# Altium schematic symbol library R 6 DSX 04.SCHLIB: 28 symbols
Pins are listed as number, name and electrical type; pins without a type are passive.

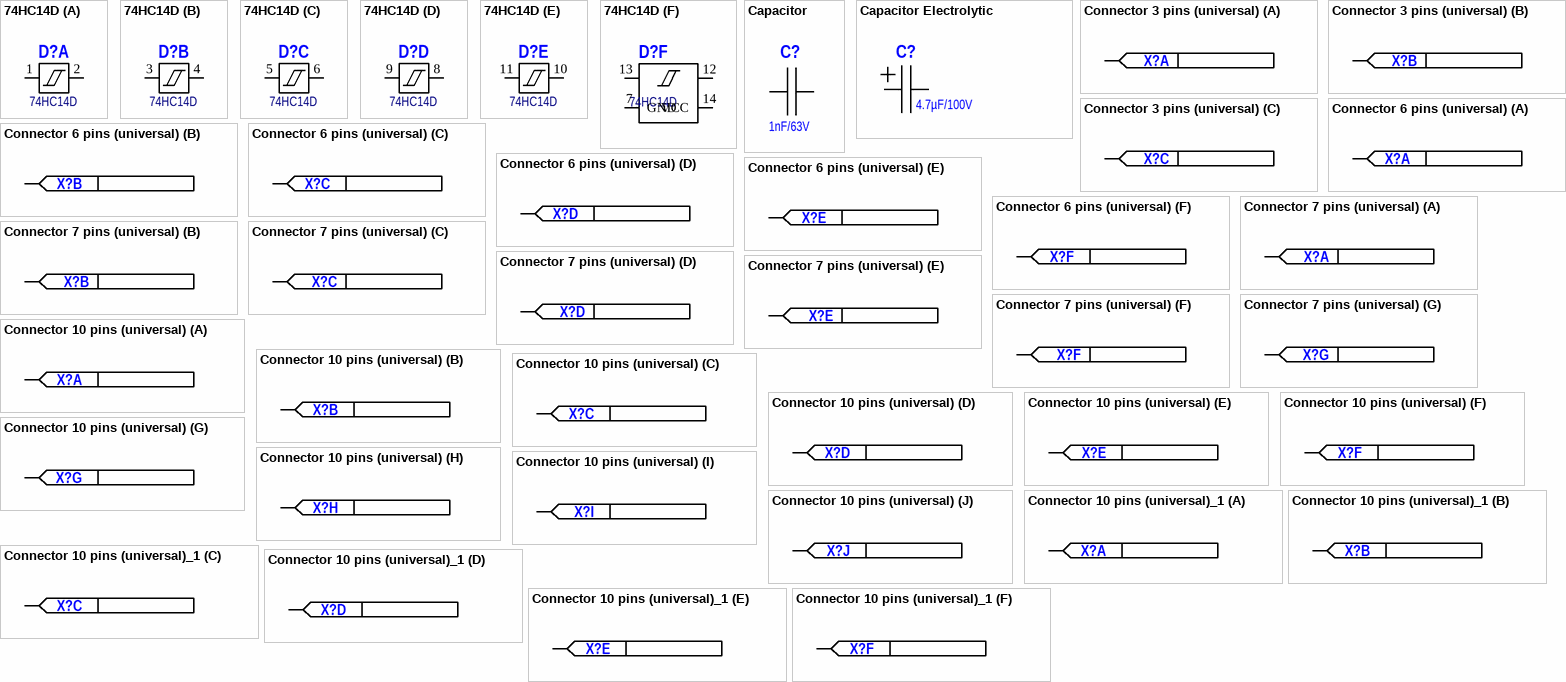
[diagram p0: symbols 74HC14D to Connector 10 pins (universal)_1]

## 74HC14D
designator D?
Hex inverting Schmitt trigger; Vendor: Philips Semiconductors; Type: Шесть инверторов с триггером Шмитта (5V логика); ComponentLink1URL: *; ComponentLink1URL: \STM32F429.pdf; Package: SOIC14; Partnumber: 74HC14D
footprint SO14 (SOIC; 14 Leads; Body Width 3.8 mm; Pitch 1.27 mm)
part A pins: 1, 2
part B pins: 3, 4
part C pins: 5, 6
part D pins: 8, 9
part E pins: 10, 11
part F pins: 7 GND, 12, 13, 14 VCC

## Capacitor
designator C?, comment 1nF/63V
Partnumber: CC0805JRNPO0BN102; Vendor: Yageo; Type: Конденсатор керамический 1нФ 5% 100В COG SMD 0805
footprint SMD Capacitor 0805 (Without marking on surface)
pins: 1, 2

## Capacitor Electrolytic
designator C?, comment 4.7µF/100V
Capacitor Electrolytic; Partnumber: К50-35-100В-4,7мкФ 5х11мм; Type: Конденсатор электролитический 4,7 мкФ ±20% 100В
footprint Capacitor  electrolytic 5x11mm
pins: 1, 2

## Connector 3 pins (universal)
designator X?, comment 62395-1 (3ps)  (value not drawn)
Vendor: TE Connectivity; Type: FASTON-110, 3-поз., ширина лезвия: 2,8mm; Partnumber: 62395-1 (3 ps)
footprint Faston Connector 3 x 2.8 mm (Connector: 3 x Faston Pin 2.8 mm)
part A pins: 1
part B pins: 2
part C pins: 3

## Connector 6 pins (universal)
designator X?, comment BH-6 (DS1013-06S) (IDC-6MS)  (value not drawn)
Vendor: Connfly; Type: Соединитель 6 контактов.; Partnumber: BH-6 (DS1013-06S) (IDC-6MS)
footprint BH-6 (BH-6 (DS1013-06S) (IDC-6MS))
part A pins: 1
part B pins: 2
part C pins: 3
part D pins: 4
part E pins: 5
part F pins: 6

## Connector 7 pins (universal)
designator X?, comment DG381-3.5-07P  (value not drawn)
Vendor: Degson; Type: Соединитель клеммный винтовой 7 полюсов; Partnumber: DG381-3.5-07P
footprint DG381-3.5-07P Terminals (DG381-3.5-07P Terminal 7 poles by Degson 3.5 mm pitch)
part A pins: 1
part B pins: 2
part C pins: 3
part D pins: 4
part E pins: 5
part F pins: 6
part G pins: 7

## Connector 10 pins (universal)
designator X?  (value not drawn)
Partnumber: 15EDGVM-3.81-10P-14; Vendor: Degson; Type: Соединитель 10 контактов. Шаг 3,81 мм.
footprint Connector 15EDGVM-3.81-10P (15EDGVM-3.81-10P Connector 10 poles by Degson 3.81 mm pitch)
part A pins: 1
part B pins: 2
part C pins: 3
part D pins: 4
part E pins: 5
part F pins: 6
part G pins: 7
part H pins: 8
part I pins: 9
part J pins: 10

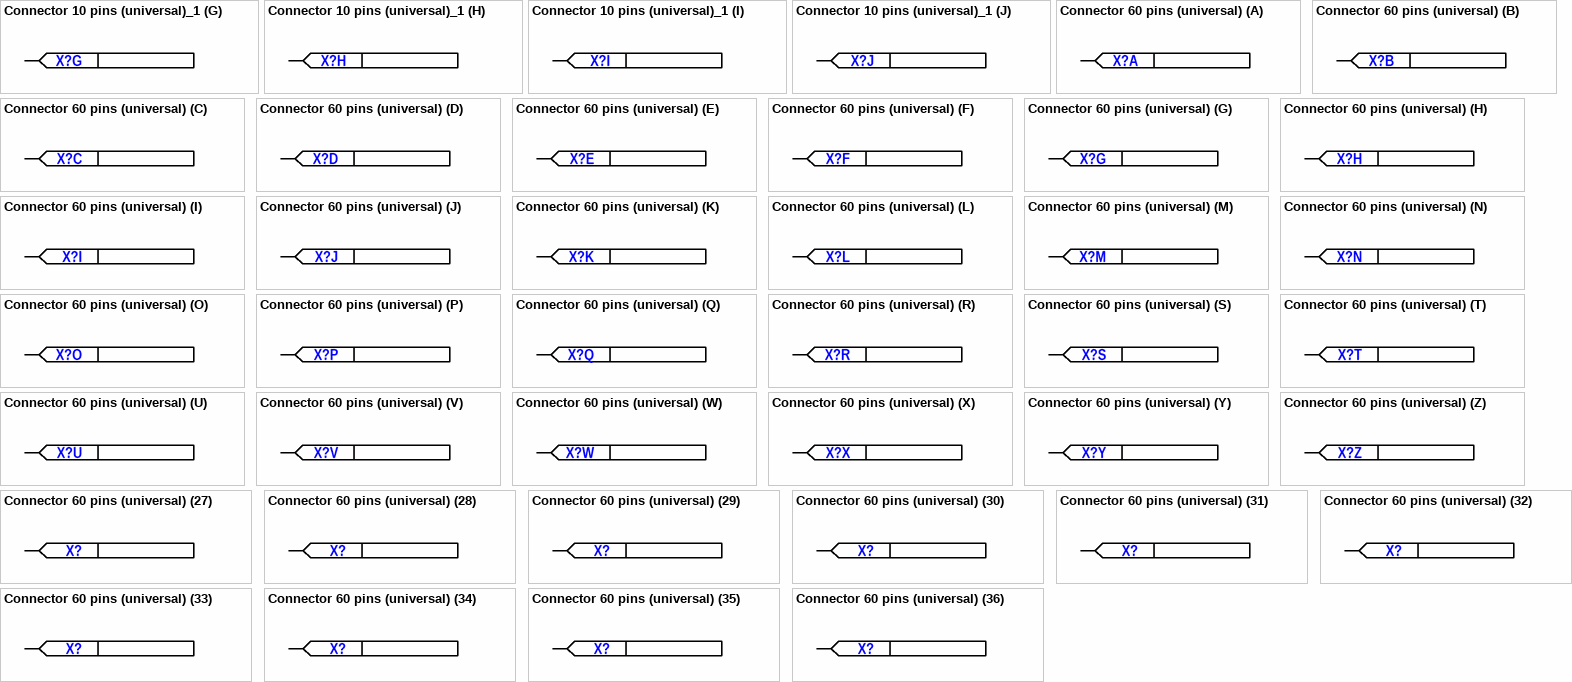
[diagram p1: symbols Connector 10 pins (universal)_1 to Connector 60 pins (universal)]

## Connector 10 pins (universal)_1
designator X?, comment BH-10  (value not drawn)
Partnumber: BH-10 (DS1013-10S) (IDC-10MS); Vendor: Connfly; Type: Соединитель для подключения внешнего шлейфа с шагом 1.27мм
footprint BH-10 (BH-10 (DS1013-10S) (IDC-10MS))
part A pins: 1
part B pins: 2
part C pins: 3
part D pins: 4
part E pins: 5
part F pins: 6
part G pins: 7
part H pins: 8
part I pins: 9
part J pins: 10

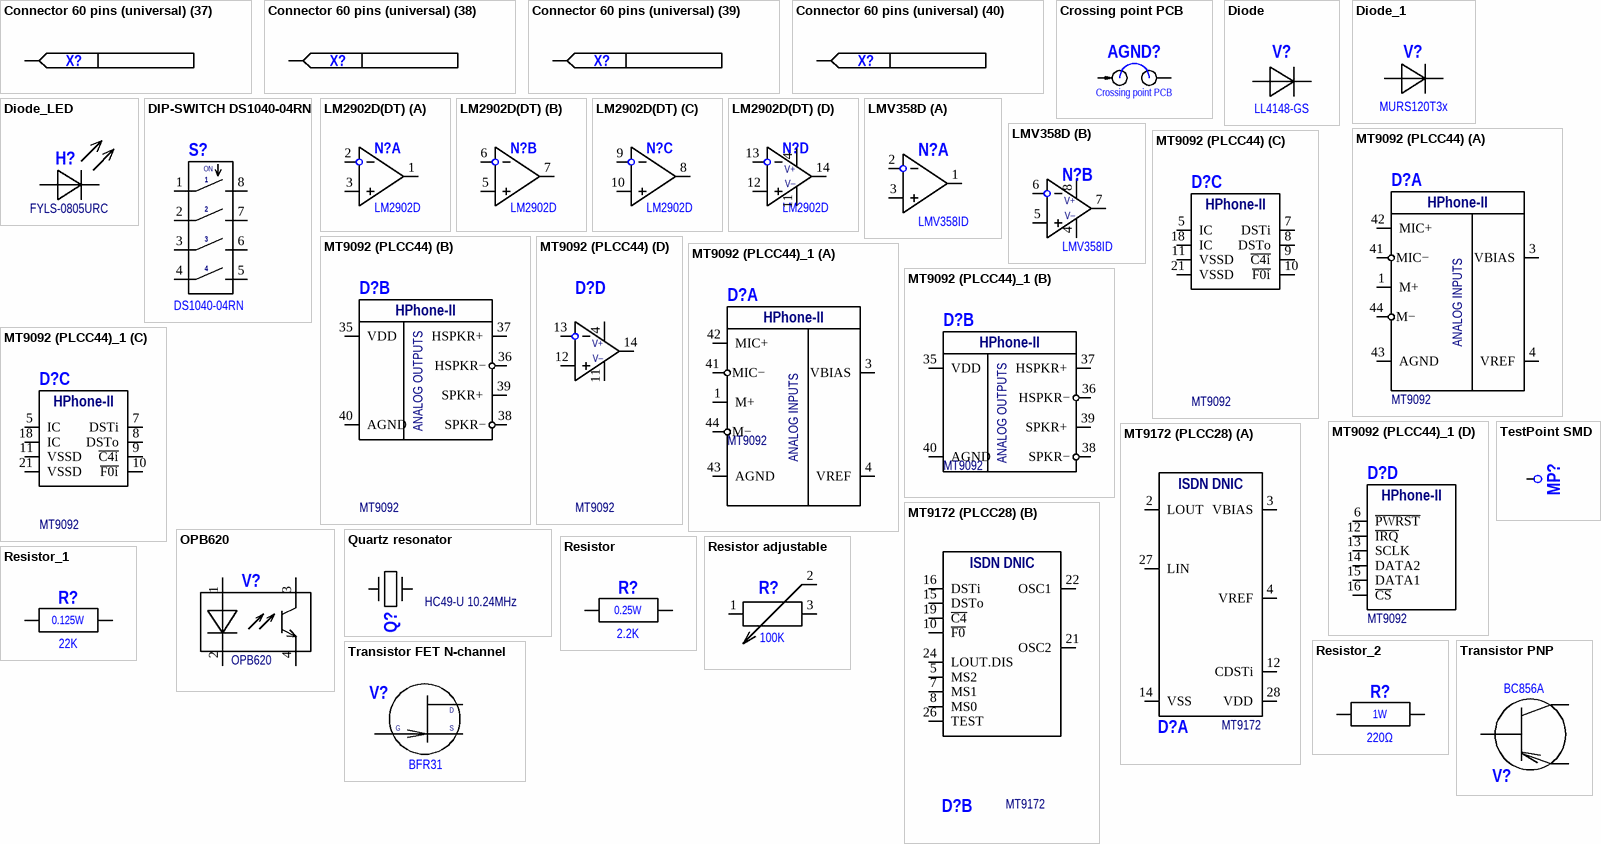
[diagram p2: symbols Connector 60 pins (universal) to Transistor PNP]

## Connector 60 pins (universal)
designator X?, comment 5177983-2  (value not drawn)
Vendor: TE; Type: Соединитель 60 полюсов; Partnumber: 5177983-2
footprint Connector 5177983-2
part A pins: 1
part B pins: 2
part C pins: 3
part D pins: 4
part E pins: 5
part F pins: 6
part G pins: 7
part H pins: 8
part I pins: 9
part J pins: 10
part K pins: 11
part L pins: 12
part M pins: 13
part N pins: 14
part O pins: 15
part P pins: 16
part Q pins: 17
part R pins: 18
part S pins: 19
part T pins: 20
part U pins: 21
part V pins: 22
part W pins: 23
part X pins: 24
part Y pins: 25
part Z pins: 26
part 27 pins: 27
part 28 pins: 28
part 29 pins: 29
part 30 pins: 30
part 31 pins: 31
part 32 pins: 32
part 33 pins: 33
part 34 pins: 34
part 35 pins: 35
part 36 pins: 36
part 37 pins: 37
part 38 pins: 38
part 39 pins: 39
part 40 pins: 40
part 41 pins: 41
part 42 pins: 42
part 43 pins: 43
part 44 pins: 44
part 45 pins: 45
part 46 pins: 46
part 47 pins: 47
part 48 pins: 48
part 49 pins: 49
part 50 pins: 50
part 51 pins: 51
part 52 pins: 52
part 53 pins: 53
part 54 pins: 54
part 55 pins: 55
part 56 pins: 56
part 57 pins: 57
part 58 pins: 58
part 59 pins: 59
part 60 pins: 60

## Crossing point PCB
designator AGND?
Crossing point
footprint Crossing point PCB
pins: 1, 2

## Diode
designator V?, comment LL4148-GS
LL4148-GS MELF Package; Partnumber: LL4148-GSxx; Vendor: Vishay; Package: MiniMELF Glass case (SOD80); Type: Small Signal Fast Switching Diode
footprint Diode SOD80C (Anode pin 1) (Diode SMA (Anode pin 1))
pins: 1, 2

## Diode_1
designator V?, comment MURS120T3x
LL4148-GS MELF Package; Vendor: ON Semiconductor; Package: SMB (DO−214AA); Type: ULTRAFAST POWER RECTIFIER; Partnumber: MURS120T3x
footprint Diode SMB (DO-214AA)
pins: 1, 2

## Diode_LED
designator H?, comment FYLS-0805URC
Diode_LED; Vendor: Foryard; Partnumber: FYLS-0805URC; Type: Светодиод красный SMD
footprint LED SMD FYLS-0805URC (FYLS-0805URC LED SMD)
pins: 1, 2

## DIP-SWITCH DS1040-04RN
designator S?, comment DS1040-04RN
DIP-switch, 4 NO Groups, by Connfly; Vendor: Connfly; Partnumber: DS1040-04RN; Type: DIP-переключатель 4-канальный, НР
footprint DS1040-04 DIP Switch (DS1040-04 DIP-switch 4 channels NO by Connfly)
pins: 1, 2, 3, 4, 5, 6, 7, 8
text: ON

## LM2902D(DT)
designator N?, comment LM2902D
Low-power quad operational amplifiers / SO-14; Partnumber: LM2902D(DT); Vendor: NXP; ComponentLink1URL: \STM32F429.pdf; Type: Операционный усилитель LM2902; Package: SOIC14
footprint SO14 (SOIC; 14 Leads; Body Width 3.8 mm; Pitch 1.27 mm)
part A pins: 1, 2, 3
part B pins: 5, 6, 7
part C pins: 8, 9, 10
part D pins: 4, 11, 12, 13, 14
part D text: V+; V–

## LMV358D
designator N?, comment LMV358ID
Low-power dual operational amplifiers / SO-14; Vendor: TI; ComponentLink1URL: \STM32F429.pdf; Type: Операционный усилитель сдвоенный; Package: SOIC8; Partnumber: LMV358ID
footprint SO8 (SOIC-8)
part A pins: 1, 2, 3
part B pins: 4, 5, 6, 7, 8
part B text: V+; V–

## MT9092 (PLCC44)
designator D?, comment MT9092
Digital Telephone with HDLC (HPhone-II) PLCC44; Vendor: MITEL; Type: Микросхема цифрового телефона HPhone-II; ComponentLink1URL: null; Package: PLCC44; Partnumber: MT9092; ComponentLink1Description: ComponentLink1URL
footprint PLCC44 SMD
part A pins: 1 M+, 3 VBIAS, 4 VREF, 41 MIC−, 42 MIC+, 43 AGND, 44 M−
part B pins: 35 VDD, 36 HSPKR−, 37 HSPKR+, 38 SPKR−, 39 SPKR+, 40 AGND
part C pins: 5 IC, 7 DSTi, 8 DSTo, 9 ~{C4i}, 10 ~{F0i}, 11 VSSD, 18 IC, 21 VSSD
part D pins: 4, 11, 12, 13, 14
part A text: HPhone-II; ANALOG INPUTS
part B text: HPhone-II; ANALOG OUTPUTS
part C text: HPhone-II
part D text: V+; V–

## MT9092 (PLCC44)_1
designator D?, comment MT9092
Digital Telephone with HDLC (HPhone-II) PLCC44; Vendor: MITEL; Type: Микросхема цифрового телефона HPhone-II; ComponentLink1URL: *; ComponentLink1URL: \STM32F429.pdf; Package: PLCC44; Partnumber: MT9092; ComponentLink1Description: ComponentLink1URL; ComponentLink1URL: null
footprint PLCC44 SMD
part A pins: 1 M+, 3 VBIAS, 4 VREF, 41 MIC−, 42 MIC+, 43 AGND, 44 M−
part B pins: 35 VDD, 36 HSPKR−, 37 HSPKR+, 38 SPKR−, 39 SPKR+, 40 AGND
part C pins: 5 IC, 7 DSTi, 8 DSTo, 9 ~{C4i}, 10 ~{F0i}, 11 VSSD, 18 IC, 21 VSSD
part D pins: 6 ~{PWRST}, 12 ~{IRQ}, 13 SCLK, 14 DATA2, 15 DATA1, 16 ~{CS}
part A text: HPhone-II; ANALOG INPUTS
part B text: HPhone-II; ANALOG OUTPUTS
part C text: HPhone-II
part D text: HPhone-II

## MT9172 (PLCC28)
designator D?, comment MT9172
Digital Subscriber Interface Circuit. Digital Network ISDN Interface Circuit. Full duplex digital  transmitter up to 160 kbit/s.; Vendor: MITEL; Type: Микросхема цифрового интерфейса ISDN; ComponentLink1URL: null; Package: PLCC28; Partnumber: MT9172; ComponentLink1Description: ComponentLink1URL
footprint PLCC28 SMD
part A pins: 2 LOUT, 3 VBIAS, 4 VREF, 12 CDSTi, 14 VSS, 27 LIN, 28 VDD
part B pins: 5 MS2, 7 MS1, 8 MS0, 10 ~{F0}, 15 DSTo, 16 DSTi, 19 ~{C4}, 21 OSC2, 22 OSC1, 24 LOUT.DIS, 26 TEST
part A text: ISDN DNIC
part B text: ISDN DNIC

## OPB620
designator V?
Slotted Optical Switch 890 nm; Vendor: OPTEK Technology; Type: Щелевой оптрон; Partnumber: OPB620
footprint OPB620 Optocoupler (OPB620 Optocoupler by TT Electronics)
pins: 1 Anode, 2 Cathode, 3 Collector, 4 Emitter

## Quartz resonator
designator Q?, comment HC49-U 10.24MHz
Quartz-crystal resonator; Partnumber: HC49-U 10.24MHz
footprint HC-49U Quartz Crystal Resonator (HC-49/U Standard Quartz Crystal)
pins: 1, 2

## Resistor
designator R?, comment 2.2K  Power dissipation: 0.25W
Partnumber: RC1206JR-072K2L; Vendor: Yageo; Type: Резистор 2.2 кОм 5% 0,25Вт SMD 1206
footprint SMD Resistor 1206
pins: 1, 2

## Resistor adjustable
designator R?, comment 100K
Partnumber: 3362H-1-104LF; Vendor: Bourns; Type: Резистор подстроечный
footprint 3362H Square Trimming Potentiometer (Square Trimpot® Trimming Potentiometer)
pins: 1, 2, 3

## Resistor_1
designator R?, comment 22K  Power dissipation: 0.125W
Partnumber: RC0805JR-0722KL; Vendor: Yageo; Type: Резистор 22 кОм 5% 0,125Вт SMD 0805
footprint SMD Resistor 0805 (Without marking on surface)
pins: 1, 2

## Resistor_2
designator R?, comment 220Ω  Power dissipation: 1W
Partnumber: FMP100JR-52-220R; Vendor: Yageo; Type: Резистор металлоплёночный 221 Ом 1% 1Вт
footprint Resistor FMP100 1W Yageo (Film Resistor FMP100 1W horisontal 10.16 mm by Yageo)
pins: 1, 2

## TestPoint SMD
designator MP?  (value not drawn)
SMD Test Point
footprint Test point SMD
pins: 1

## Transistor FET N-channel
designator V?, comment BFR31
Drain - 1, Source - 2, Gate - 3; Vendor: Philips; Type: Транзистор N-канальный полевой SMD SOT23; Partnumber: BFR31
footprint Transistor BFR31 SOT23 (FET N-channel)
pins: 1 Drain, 2 Source, 3 Gate
text: D; G; S

## Transistor PNP
designator V?, comment BC856A
Base - 1, Emitter - 2, Collector - 3; Vendor: Philips; Type: Транзистор BC856A SMD SOT23; Partnumber: BC856A
footprint Transistor BC856 SOT23 (PNP transistor) (Transistor BC856 PNP Transistor)
pins: 1 Base, 2 Emitter, 3 Collector